# Altium schematic symbol library LTC3105EDD.SchLib: 1 symbol
Pins are listed as number, name and electrical type; pins without a type are passive.

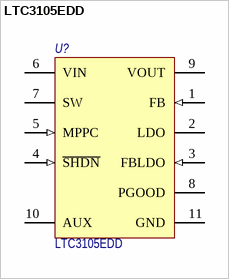
[diagram p0: symbol LTC3105EDD]

## LTC3105EDD
designator U?
400 mA Step-Up DC/DC Converter with Maximum Power Point Control and 250 mV Start-Up, 10-pin SON (DD-10), -40 to 85 degC, Pb-Free, Tape and Reel; PartNumber: LTC3105EDD#TRPBF; Manufacturer: Linear Technology; Topology: Boost; Vout Max(V): 5.25; Vin Min(V): 0.225; Number of Outputs: 1; Vin Max(V): 5; Energy Source: Solar; Назначение: 400 mA Step-Up DC/DC Converter with MPPЕ Control and 250 mV Start-Up; Потребление, Вт: 0.001; ComponentLink3Description: Package Specification; Code_JEDEC: MO-229; PackageDescription: 10-Pin Plastic DFN, Body 3 x 3 mm, Pitch 0.5 mm; Packing: Tape and Reel; Mounting Technology: Surface Mount; PackageVersion: Rev. C, 06/2010; ComponentLink1Description: Manufacturer URL; DatasheetVersion: Rev. A; ComponentLink2Description: Datasheet; ComponentLink2URL: http://cds.linear.com/docs/en/datasheet/3105fa.pdf; ComponentLink1URL: http://www.linear.com/; RoHS: TRUE; PackageReference: DD-10; ComponentLink3URL: http://cds.linear.com/docs/en/packaging/DFN_10_05-08-1699.pdf; Наименование: LTC3105EDD
footprint LFQC-10_3x3 (10-Lead (3mm ? 3mm) Plastic DFN)
pins: 1 FB (in) "Step-Up Converter Feedback Input. Connect the VOUT resistor divider tap to this input. The output voltage can be adjusted between 1.5V and 5.25V.", 2 LDO (power) "LDO Regulator Output. Connect a 4.7uF or larger capacitor between LDO and GND.", 3 FBLDO (in) "LDO Feedback Input. Connect the LDO resistive divider tab to this input. Alternatively, connecting FBLDO directly to GND will configure the LDO output voltage to be internally set at 2.2V (nominal).", 4 ~{SHDN} (in) "Logic Controlled Shutdown Input. With S\H\D\N\ open, the converter is enabled by an internal 2Mohm pull-up resistor. The S\H\D\N\ pin should be driven with an open-drain or open-collector pull-down and floated until the (See Datasheet)", 5 MPPC (in) "Set Point Input for Maximum Power Point Control. Connect a resistor from MPPC to GND to program the activation point for the MPPC loop. To disable the MPPC circuit, connect MPPC directly to GND.", 6 VIN (power) "Input Supply. Connect a decoupling capacitor between this pin and GND. The PCB trace length from the VIN pin to the decoupling capacitor should be as short and wide as possible. When used with high impedance sources such as (See Datasheet)", 7 SW (power) "Switch Pin. Connect an inductor between SW and VIN. PCB trace lengths should be as short as possible to reduce EMI. While the converter is sleeping or is in shutdown, the internal antiringing switch connects the SW pin to (See Datasheet)", 8 PGOOD (oc) "Power Good Indicator. This is an open-drain output. The pull-down is disabled when VOUT has achieved the voltage defined by the feedback divider on the FB pin. The pull-down is also disabled while the IC is in shutdown or (See Datasheet)", 9 VOUT (power) "Step-Up Converter Output. This is the drain connection of the main output internal synchronous rectifier. A 10uF or larger capacitor must be connected between this pin and GND. The PCB trace length from the VOUT pin to the (See Datasheet)", 10 AUX (power) "Auxiliary Voltage. Connect a 1uF capacitor between this pin and GND. This pin is used by the start-up circuitry to generate a voltage rail to power internal circuitry until the main output reaches regulation. AUX and VOUT (See Datasheet)", 11 GND (power) "EXPOSED PAD (PIN 11) IS GND, MUST BE SOLDERED TO PCB"